# EAGLE library part LTC3700 (library PowerProducts)
Constant Frequency Step-Down DC/DC Controller with LDO Regulator
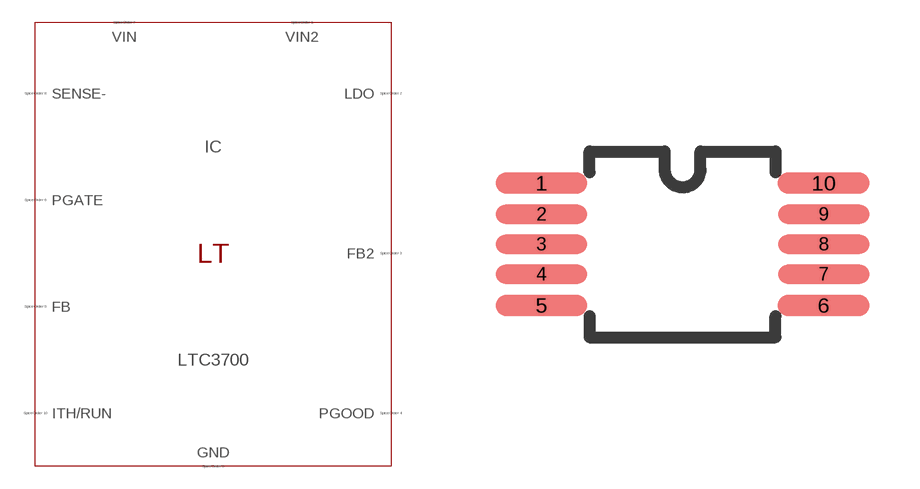
[diagram p279: symbol with the pads of MSOP10(MS); footprint MSOP10(MS)]

Designator prefix IC

## LTC3700 (SPICEMODEL: LTC3700.sub; SPICEPREFIX: X; VALUE2: LTC3700)  [MSOP10(MS)]
1  VIN2  pas
2  LDO  pas
3  FB2  pas
4  PGOOD  pas
5  GND  pas
6  PGATE  pas
7  VIN  pas
8  SENSE-  pas
9  FB  pas
10  ITH/RUN  pas

## Footprint MSOP10(MS) (pad centres in mm)
Package generated from: MSOP10(MS).asc (!PADS-POWERPCB-V5.0-BASIC! DESIGN DATABASE ASCII FILE 1.0) with :import-pads-powerpcb-v5.ulp Version 1.0.1 at 04.10.2012 14:11:19
smd 2.295 x 0.54: 1 -3.529,1.53; 5 -3.529,-1.53; 6 3.529,-1.53; 10 3.529,1.53
smd 2.295 x 0.48: 2 -3.529,0.75; 3 -3.529,0; 4 -3.529,-0.75; 7 3.529,-0.75; 8 3.529,0; 9 3.529,0.75